# Altium schematic symbol library SDR0403-47KL.Schlib: 1 symbol
Pins are listed as number, name and electrical type; pins without a type are passive.

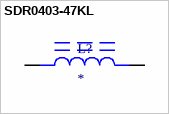
[diagram p0: symbol SDR0403-47KL]

## SDR0403-47KL
designator L?
Inductor Power Wirewound 220uH 10% 1KHz 50Q-Factor Ferrite 220mA 4.4Ohm DCR T/R <a href="https://snapeda.com/parts/SDR0403-221KL/Bourns/view-part/?ref=eda">Buy Part</a>
pins: 1, 2